# Altium schematic symbol library TestPoint.SchLib: 1 symbol
Pins are listed as number, name and electrical type; pins without a type are passive.

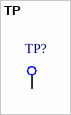
[diagram p0: symbol TP]

## TP
designator TP?  (value not drawn)
footprint TP_1.25x1.25
footprint TP_0.75x0.75
pins: 1 TP